# EAGLE library part PIC16F1708 (library microchip)
PIC IC MCU 8BIT 4K FLASH 20SOIC
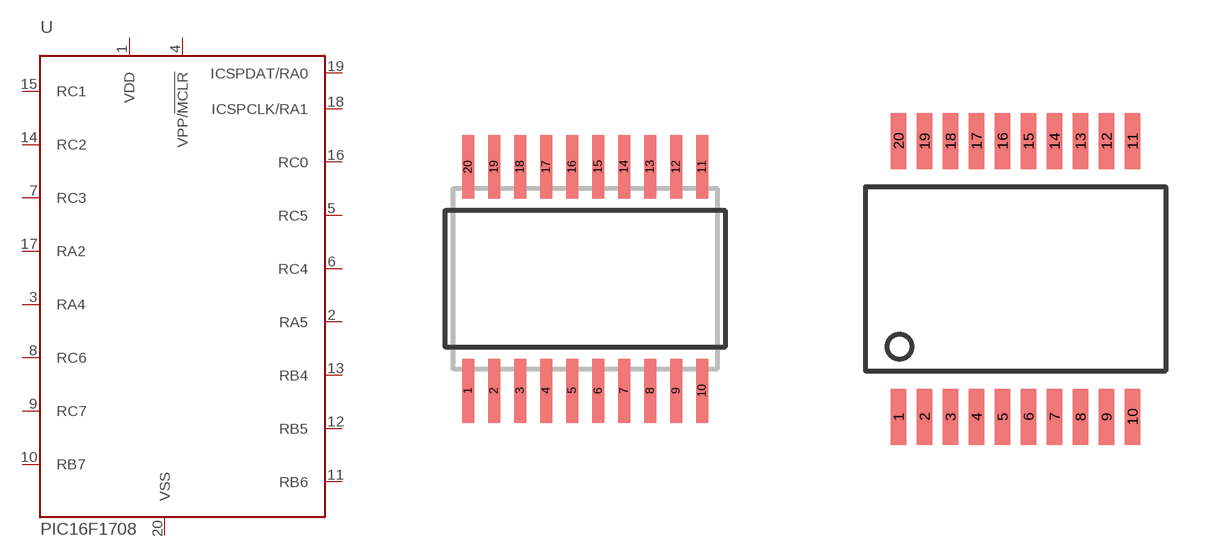
[diagram p2: symbol with the pads of TSSOP20; footprints TSSOP20, SSOP-20]

Designator prefix U

## PIC16F1708BADPKG (DIGIKEY: PIC16F1708-I/SO-ND)  [TSSOP20]
1  VDD
2  RA5
3  RA4
4  VPP/!MCLR
5  RC5
6  RC4
7  RC3
8  RC6
9  RC7
10  RB7
11  RB6
12  RB5
13  RB4
14  RC2
15  RC1
16  RC0
17  RA2
18  ICSPCLK/RA1
19  ICSPDAT/RA0
20  VSS

## PIC16F1708SSOP20 (DIGIKEY: PIC16F1708-I/SS-ND; P1I: o)  [SSOP-20]
Pads as for TSSOP20

## PIC16F1708SOIC20 (DIGIKEY: PIC16F1708-I/SO-ND; P1I: o)  [SOIC20]
Pads as for TSSOP20

## Footprint TSSOP20 (pad centres in mm)
Thin Shrink Small Outline Plastic 20 PW (R-PDSO-G20) pitch 0.65 mm, body 4.5 x 6.6 mm
smd 0.3 x 1.6: 1 -2.925,-2.8; 2 -2.275,-2.8; 3 -1.625,-2.8; 4 -0.975,-2.8; 5 -0.325,-2.8; 6 0.325,-2.8; 7 0.975,-2.8; 8 1.625,-2.8; 9 2.275,-2.8; 10 2.925,-2.8; 11 2.925,2.8; 12 2.275,2.8; 13 1.625,2.8; 14 0.975,2.8; 15 0.325,2.8; 16 -0.325,2.8; 17 -0.975,2.8; 18 -1.625,2.8; 19 -2.275,2.8; 20 -2.925,2.8

## Footprint SSOP-20 (pad centres in mm)
smd 0.38 x 1.4: 1 -2.925,-3.45; 2 -2.275,-3.45; 3 -1.625,-3.45; 4 -0.975,-3.45; 5 -0.325,-3.45; 6 0.325,-3.45; 7 0.975,-3.45; 8 1.625,-3.45; 9 2.275,-3.45; 10 2.925,-3.45; 11 2.925,3.45; 12 2.275,3.45; 13 1.625,3.45; 14 0.975,3.45; 15 0.325,3.45; 16 -0.325,3.45; 17 -0.975,3.45; 18 -1.625,3.45; 19 -2.275,3.45; 20 -2.925,3.45

## Footprint SOIC20 (pad centres in mm)
smd 1.981 x 0.559: 1 -4.674,5.715; 2 -4.674,4.445; 3 -4.674,3.175; 4 -4.674,1.905; 5 -4.674,0.635; 6 -4.674,-0.635; 7 -4.674,-1.905; 8 -4.674,-3.175; 9 -4.674,-4.445; 10 -4.674,-5.715; 11 4.674,-5.715; 12 4.674,-4.445; 13 4.674,-3.175; 14 4.674,-1.905; 15 4.674,-0.635; 16 4.674,0.635; 17 4.674,1.905; 18 4.674,3.175; 19 4.674,4.445; 20 4.674,5.715